# Altium footprint library dupont.PcbLib: 2 footprints
Each footprint in its own frame and in the unit in brackets; x right, y up, seen from the top. Pads: shape width x height; smd on the part's side, far side on the other; paste and mask are expansions set on the pad; w line width, h text height; cw(c..) or ccw(c..) is an arc to the next point about the centre after c.
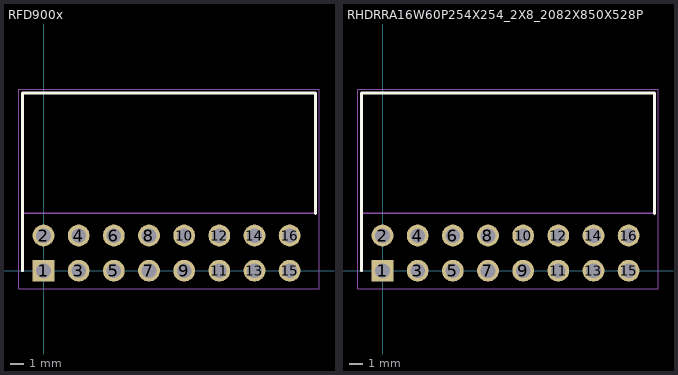
[diagram p0: the footprints below, top view; thin cyan lines are the x and y axes]

## RFD900x [mm]
pads (16):
  rect 1.575x1.575 hole 1.05: 1(0,0)
  round 1.575 hole 1.05: 2(0,2.54) 3(2.54,0) 4(2.54,2.54) 5(5.08,0) 6(5.08,2.54) 7(7.62,0) 8(7.62,2.54) 9(10.16,0) 10(10.16,2.54) 11(12.7,0) 12(12.7,2.54) 13(15.24,0) 14(15.24,2.54) 15(17.78,0) 16(17.78,2.54)
Top Overlay:
  lines w0.2: -1.52,0 -1.52,12.84 19.65,12.84 19.65,4.14
Mechanical 13:
  lines w0.1: -1.52,4.14 19.65,4.14 19.65,12.84 -1.52,12.84 -1.52,4.14
Mechanical 15:
  lines w0.05: -1.77,-1.288 -1.77,13.09 19.9,13.09 19.9,-1.288 -1.77,-1.288
3D body "RFD900X.stp": height 12.58, standoff -0.22, extent -6.51,6.674 24.29,67.473
3D body "PPPC082LJBN-RC.stp": height 5.28, standoff -3.35, extent -1.52,-0.3 19.3,12.64

## RHDRRA16W60P254X254_2X8_2082X850X528P [mm]
pads (16):
  rect 1.575x1.575 hole 1.05: 1(0,0)
  round 1.575 hole 1.05: 2(0,2.54) 3(2.54,0) 4(2.54,2.54) 5(5.08,0) 6(5.08,2.54) 7(7.62,0) 8(7.62,2.54) 9(10.16,0) 10(10.16,2.54) 11(12.7,0) 12(12.7,2.54) 13(15.24,0) 14(15.24,2.54) 15(17.78,0) 16(17.78,2.54)
Top Overlay:
  lines w0.2: -1.52,0 -1.52,12.84 19.65,12.84 19.65,4.14
Mechanical 13:
  lines w0.1: -1.52,4.14 19.65,4.14 19.65,12.84 -1.52,12.84 -1.52,4.14
Mechanical 15:
  lines w0.05: -1.77,-1.288 -1.77,13.09 19.9,13.09 19.9,-1.288 -1.77,-1.288
3D body "PPPC082LJBN-RC.stp": height 5.28, standoff -3.35, extent -1.52,-0.3 19.3,12.64